# EAGLE library part AKL59-12 (library con-ria-59)
RIA Anschlussklemme Typ 59, Raster 3,5 mm, Polzahl 12
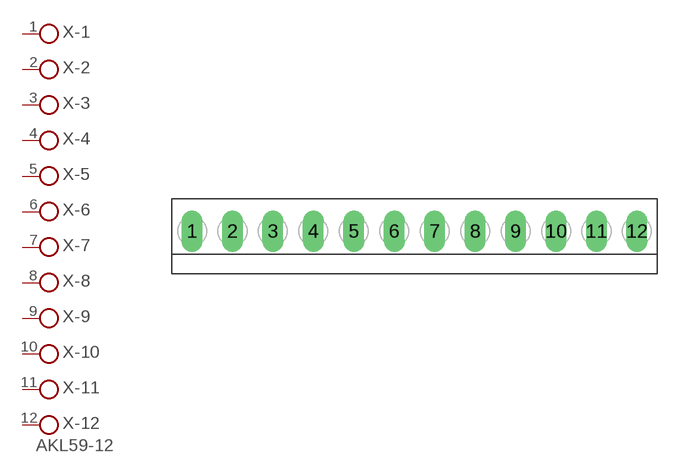
[diagram p6: symbol with the pads of 12POL35; footprint 12POL35]

Designator prefix X; gates -1=PIN -2=PIN -3=PIN -4=PIN -5=PIN -6=PIN -7=PIN -8=PIN -9=PIN -10=PIN -11=PIN -12=PINV

## AKL59-12  [12POL35]
1  -1:1  pas
2  -2:1  pas
3  -3:1  pas
4  -4:1  pas
5  -5:1  pas
6  -6:1  pas
7  -7:1  pas
8  -8:1  pas
9  -9:1  pas
10  -10:1  pas
11  -11:1  pas
12  -12:1  pas

## Footprint 12POL35 (pad centres in mm)
Raster 3,5 mm, Polzahl 12
drill 1.2 long: 1 -19.25,0; 2 -15.75,0; 3 -12.25,0; 4 -8.75,0; 5 -5.25,0; 6 -1.75,0; 7 1.75,0; 8 5.25,0; 9 8.75,0; 10 12.25,0; 11 15.75,0; 12 19.25,0